# Altium integrated library nRF24LU1+ Reference Layout_ver1_0.IntLib: 5 symbols
Pins are listed as number, name and electrical type; pins without a type are passive.

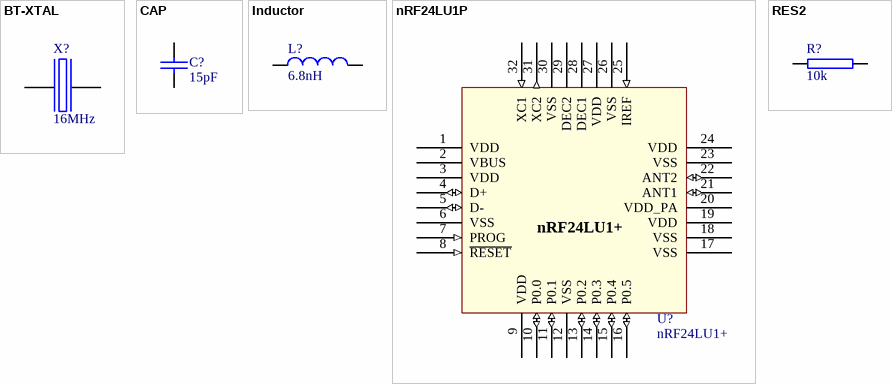
[diagram p0: symbols BT-XTAL to RES2]

## BT-XTAL
designator X?, comment value 16MHz  (hidden comment: TSX-3225, 16MHz, Cl=9pF, +/-10ppm)
Crystal
footprint bt-xtal 3225 (Mercury X32 series)
pins: 1 inp, 2 GND hidden to GND, 3 out, 4 GND hidden to GND

## CAP
designator C?, comment value 15pF  (hidden comment: NPO, +/-2% 50V)
Capacitor; Part Field 1: 0402
footprint 0402s
pins: 1, 2

## Inductor
designator L?, comment value 6.8nH  (hidden comment: Murata LQP15MN6N8B02D)
Inductor; Code_IEC: 1005; Published: 8-Jun-2000; LatestRevisionDate: 17-Jul-2002; LatestRevisionNote: Re-released for DXP Platform.; PackageReference: 0402-A; Publisher: Altium Limited; Code_JEITA: 0402
footprint 0402s
footprint L0603 (Chip Inductor; Body 1.6 x 0.8 mm (LxW typ))
footprint 2012_Chip (2012 Chip; Chip Inductor; Body 2.0 x 1.2 mm (LxW typ))
footprint 2029 (Chip Inductor; Body 2 x 1.2 mm (LxW typ))
footprint 3261 (3216 Chip; Chip Inductor; Body 3.2 x 1.6 mm (LxW typ))
footprint 4564_Chip (4564 Chip; Chip Inductor; Body 4.5 x 6.4 mm (LxW typ))
simulation model INDUCTOR (Inductor)
signal-integrity model Inductor
pins: 1, 2

## nRF24LU1P
designator U?, comment nRF24LU1+
2.4GHz Transceiver with USB
footprint QFN32L/5x5
pins: 1 VDD (power) "Power supply (+3.3V DC) for de-coupling purposes", 2 VBUS (power) "USB power connection", 3 VDD (power) "Power supply (+3.3V DC) for de-coupling purposes", 4 D+ (io) "USB data +", 5 D- (io) "USB data -", 6 VSS (power) "Ground (0V)", 7 PROG (in) "Reserved for programming the flash", 8 ~{RESET} (in) "Reset for microcontroller, active low", 9 VDD (power) "Power supply (+3.3V DC) for de-coupling purposes", 10 P0.0 (io) "General purpose data Port 0, bit 0", 11 P0.1 (io) "General purpose data Port 0, bit 1", 12 VSS (power) "Ground (0V)", 13 P0.2 (io) "General purpose data Port 0, bit 2", 14 P0.3 (io) "General purpose data Port 0, bit 3", 15 P0.4 (io) "General purpose data Port 0, bit 4", 16 P0.5 (io) "General purpose data Port 0, bit 5", 17 VSS (power) "Ground (0V)", 18 VSS (power) "GND", 19 VDD (power) "Power supply (+3.3V DC) for de-coupling purposes", 20 VDD_PA (power) "Power Supply (+1.8V) to Power Amplifier", 21 ANT1 (io) "Antenna connection 1", 22 ANT2 (io) "Antenna connection 2", 23 VSS (power) "Ground (0V)", 24 VDD (power) "Power supply (+3.3V DC) for de-coupling purposes", 25 IREF (in) "Reference current", 26 VSS (power) "Ground (0V)", 27 VDD (power) "Power supply (+3.3V DC) for de-coupling purposes", 28 DEC1 (power) "Positive Digital Supply output for de-coupling purposes", 29 DEC2 (power) "Positive Digital Supply output for de-coupling purposes", 30 VSS (power) "Ground (0V)", 31 XC2 (out) "Crystal connection 2", 32 XC1 (in) "Crystal connection 1"

## RES2
designator R?, comment value 10k  (hidden comment: 5%)
Resistor; Part Field 1: 0402
footprint 0402s
footprint 0402s
pins: 1, 2